# EAGLE library part 693161011911 (library WR-CRD)
WR-CRD SD Card Connectors Characteristics Available in two form factors: SD and MicroSD Available in three entry types: Push-Pull, Hinge and Push-Push SD 4.0 available in SD form factor for higher transfer speed Applications Single-board computers Surveillance systems Industrial data logging Consumer Electronics Drones <https://www.we-online.com/components/media/o32845v209%20Family_ConCRD_693071010811.jpg> Details see: www.we-online.com/components/products/WR-CRD_CARD_CONNECTORS_SD2 <www.we-online.com/catalog/WR-CRD_CARD_CONNECTORS_SD2/?utm_source=eagle_model&utm_medium=description_link&utm_campaign=eisos_eagle> Created by Yingchun,Shan 2019-11-22 2019 (C) Würth Elektronik
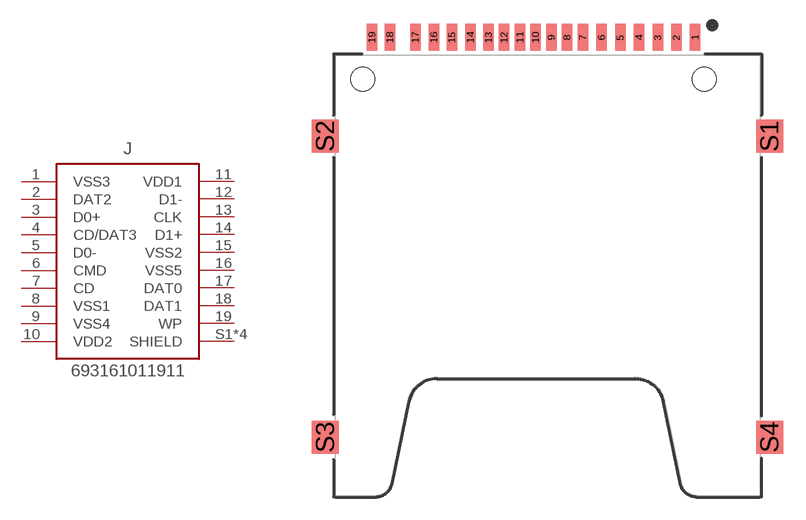
[diagram p14: symbol with the pads of 693161011911; footprint 693161011911]

Designator prefix J

## 693161011911 (DATASHEET-URL: https://www.we-online.com/redexpert/spec/693161011911?ae; DURABILITY: 10000 Mating cycles; GERDER: Socket; MOUNT: SMT; PART-NUMBER: 693161011911; PINS: 19pcs; SIZE: SD 4.0; TYPE: Push & Pull; VALUE: 693161011911)  [693161011911]
1  VSS3  pas
2  DAT2  pas
3  D0+  pas
4  CD/DAT3  pas
5  D0-  pas
6  CMD  pas
7  CD  pas
8  VSS1  pas
9  VSS4  pas
10  VDD2  pas
11  VDD1  pas
12  D1-  pas
13  CLK  pas
14  D1+  pas
15  VSS2  pas
16  VSS5  pas
17  DAT0  pas
18  DAT1  pas
19  WP  pas
S1  SHIELD  pas
S2  SHIELD  pas
S3  SHIELD  pas
S4  SHIELD  pas

## Footprint 693161011911 (pad centres in mm)
WR-CRD SD Card Connector 4.0 Push & Push with Card Detection 19 pins
smd 0.7 x 1.8: 1 9.85,0; 2 8.6,0; 3 7.35,0; 4 6.1,0; 5 4.85,0; 6 3.6,0; 7 2.35,0; 8 1.3,0; 9 0.25,0; 10 -0.8,0; 11 -1.84,0; 12 -2.9,0; 13 -3.94,0; 14 -5.15,0; 15 -6.39,0; 16 -7.59,0; 17 -8.82,0; 18 -10.52,0; 19 -11.72,0
smd 1.8 x 2.2: S1 14.825,-6.6; S2 -14.825,-6.6; S3 -14.825,-26.7; S4 14.825,-26.7
hole 1.6 at -12.35,-2.8
hole 1.6 at 10.45,-2.8